# Altium integrated library cui.IntLib: 4 symbols
Pins are listed as number, name and electrical type; pins without a type are passive.

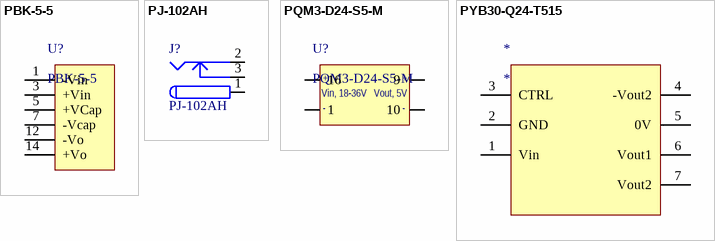
[diagram p0: symbols PBK-5-5 to PYB30-Q24-T515]

## PBK-5-5
designator U?
AC/DC CONVERTER 5V 5W
footprint PBK-5-5
pins: 1 -Vin, 3 +Vin, 5 +VCap, 7 -Vcap, 12 -Vo, 14 +Vo

## PJ-102AH
designator J?
Low Voltage Power Supply Connector, 2.1 mm; Supplier 1: Mouser; Supplier Part Number 1: 490-PJ-102AH
footprint PJ-102AH (2.1 mm DC POWER JACK)
pins: 1 (power), 2 (power), 3 (power)

## PQM3-D24-S5-M
designator U?
CONVERT DC/DC 3W 5V 600MA OUT
footprint PQM3-D24-S5-M (CUI Power Supply)
pins: 1, 9, 10, 16
text: +; Vin, 18-36V; Vout, 5V; -

## PYB30-Q24-T515
designator *
pins: 1 Vin, 2 GND, 3 CTRL, 4 -Vout2, 5 0V, 6 Vout1, 7 Vout2